# Altium footprint library CAPPR7.5-16x40.PcbLib: 1 footprints
Each footprint in its own frame and in the unit in brackets; x right, y up, seen from the top. Pads: shape width x height; smd on the part's side, far side on the other; paste and mask are expansions set on the pad; w line width, h text height; cw(c..) or ccw(c..) is an arc to the next point about the centre after c.
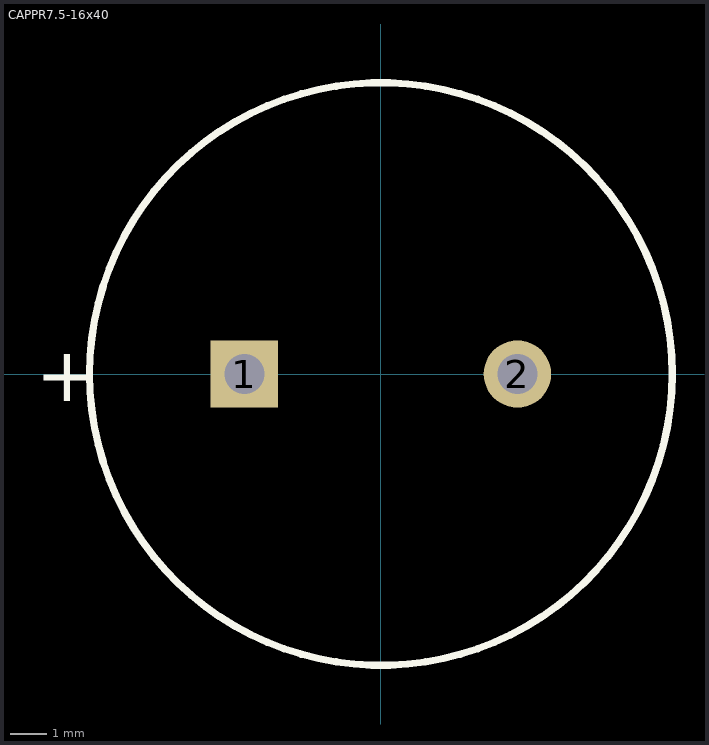
[diagram p0: the footprint, top view; thin cyan lines are the x and y axes]

## CAPPR7.5-16x40 [mm] "Capacitor, Electrolytic, Radial; Body 16 x 40 mm (Dia.xH typ); Pin Spacing 7.5 mm (typ)"
height 41.5
pads (2):
  rect 1.85x1.85 hole 1.1: 1(-3.75,0)
  round 1.85 hole 1.1: 2(3.75,0)
Top Overlay:
  circle w0.2: c0,0 r8
  text "+" at -9.475,-0.75 h1.5